# Altium schematic symbol library GPS.SchLib: 1 symbol
Pins are listed as number, name and electrical type; pins without a type are passive.

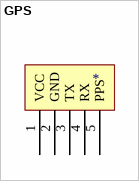
[diagram p0: symbol GPS]

## GPS
designator ?
footprint GPS
pins: 1 VCC, 2 GND, 3 TX, 4 RX, 5 PPS